# Altium footprint library Connectors_Tyco.PcbLib: 1 footprints
Each footprint in its own frame and in the unit in brackets; x right, y up, seen from the top. Pads: shape width x height; smd on the part's side, far side on the other; paste and mask are expansions set on the pad; w line width, h text height; cw(c..) or ccw(c..) is an arc to the next point about the centre after c.
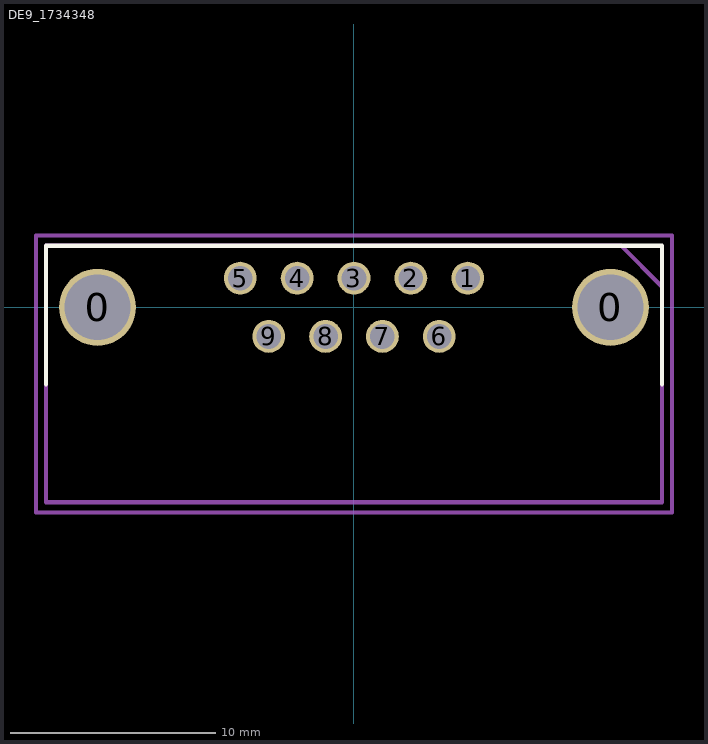
[diagram p0: the footprint, top view; thin cyan lines are the x and y axes]

## DE9_1734348 [mm]
height 12.5
pads (11):
  round 3.75 hole 3.2: 0(-12.495,0) 0(12.495,0)
  round 1.6 hole 1.2: 1(5.54,1.42) 2(2.77,1.42) 3(0,1.42) 4(-2.77,1.42) 5(-5.54,1.42) 6(4.155,-1.42) 7(1.385,-1.42) 8(-1.385,-1.42) 9(-4.155,-1.42)
Top Overlay:
  lines w0.2: -15,-3.75 -15,3 15,3 15,-3.75
Assembly:
  lines w0.2: -15,-9.5 15,-9.5 15,1 13,3 -15,3 -15,-9.5
Courtyard:
  lines w0.2: -15.5,-10 15.5,-10 15.5,3.5 -15.5,3.5 -15.5,-10
3D body: height 12.5, standoff 0, extent -15,-9.5 15,3